# Altium footprint library PCB_library.PcbLib: 36 footprints (part 1 of 3)
Each footprint in its own frame and in the unit in brackets; x right, y up, seen from the top. Pads: shape width x height; smd on the part's side, far side on the other; paste and mask are expansions set on the pad; w line width, h text height; cw(c..) or ccw(c..) is an arc to the next point about the centre after c.
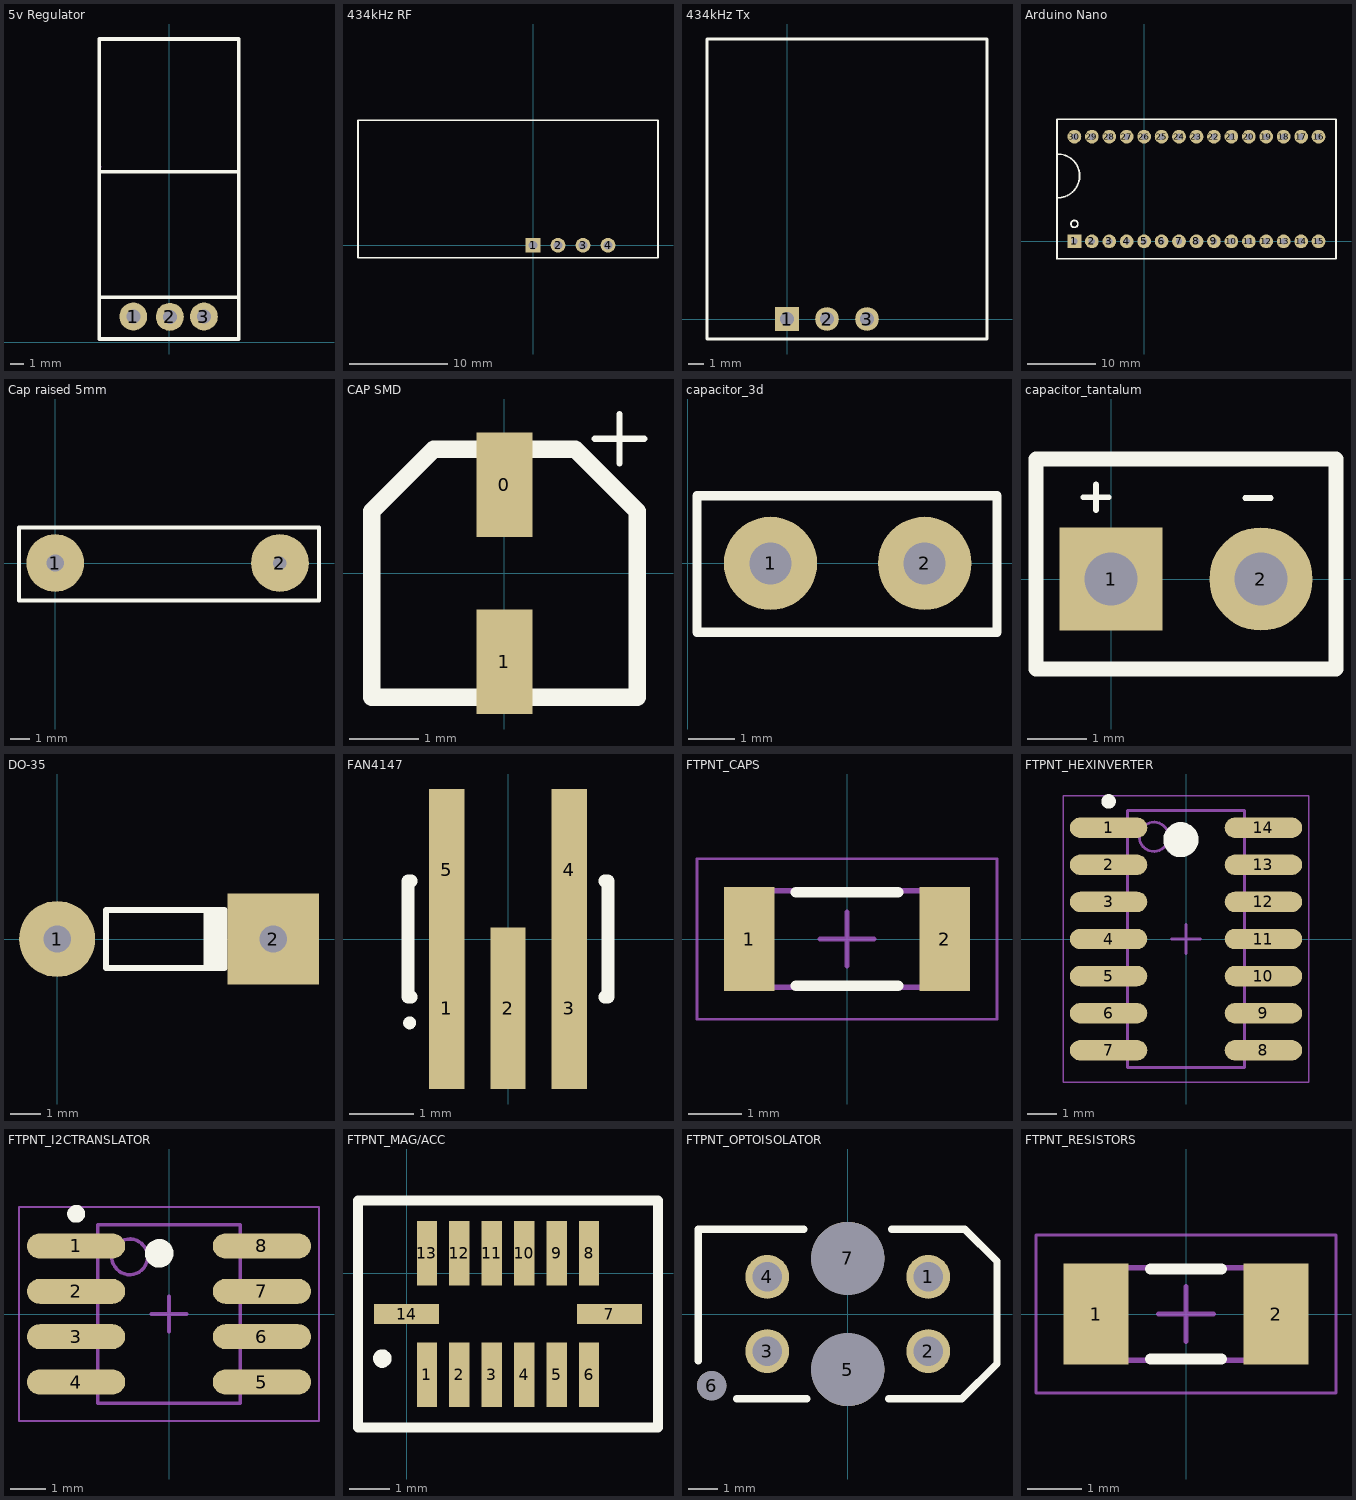
[diagram p0: the footprints below, top view; thin cyan lines are the x and y axes]

## 5v Regulator [mm]
pads (3):
  round 2 hole 1 square: 1(-2.56,1.84) 2(0.06,1.82)
  round 2 hole 1: 3(2.5,1.84)
Top Overlay:
  lines w0.254: -5,3.21 4.51,3.21 4.96,3.21 ; -4.96,12.22 4.98,12.22 ; -5,0.23 -5,21.742 5,21.742 5,0.23 -5,0.23
Mechanical 1:
  lines w0.254: -4.98,12.58 -4.97,12.57
3D body: height 5, standoff 2, extent -5.065,0.29 5.131,21.819

## 434kHz RF [mm] "3d model"
height 10
pads (4):
  rect 1.5x1.5 hole 0.9: 1(0,0)
  round 1.5 hole 0.9: 2(2.54,0) 3(5.08,0) 4(7.62,0)
Top Overlay:
  lines w0.2: -17.78,-1.27 -17.78,12.7 12.7,12.7 12.7,-1.27 -17.78,-1.27
3D body: height 8.1, standoff 8, extent -17.78,-1.27 12.7,12.7
3D body: height 8, standoff 0, extent -0.545,-0.549 0.55,0.549
3D body: height 8, standoff 0, extent 1.995,-0.549 3.09,0.549
3D body: height 8, standoff 0, extent 4.535,-0.549 5.63,0.549
3D body: height 8, standoff 0, extent 7.075,-0.549 8.17,0.549

## 434kHz Tx [mm] "3d model of transmitter"
height 10
pads (3):
  rect 1.5x1.5 hole 0.9: 1(0,0)
  round 1.5 hole 0.9: 2(2.54,0) 3(5.08,0)
Top Overlay:
  lines w0.2: -5.08,-1.27 12.7,-1.27 12.7,17.78 -5.08,17.78 -5.08,-1.27
3D body: height 4.19, standoff 0, extent -0.545,-0.549 0.55,0.549
3D body: height 4.19, standoff 0, extent 1.995,-0.549 3.09,0.549
3D body: height 4.19, standoff 0, extent 4.535,-0.549 5.63,0.549
3D body: height 4.4, standoff 4.2, extent -5.08,-1.27 12.7,17.78

## Arduino Nano [mm] "30 pin breakout"
height 8
pads (30):
  rect 2x2 hole 0.9: 1(-10.16,0)
  round 2 hole 0.9: 2(-7.62,0) 3(-5.08,0) 4(-2.54,0) 5(0,0) 6(2.54,0) 7(5.08,0) 8(7.62,0) 9(10.16,0) 10(12.7,0) 11(15.24,0) 12(17.78,0) 13(20.32,0) 14(22.86,0) 15(25.4,0) 16(25.4,15.24) 17(22.86,15.24) 18(20.32,15.24) 19(17.78,15.24) 20(15.24,15.24) 21(12.7,15.24) 22(10.16,15.24) 23(7.62,15.24) 24(5.08,15.24) 25(2.54,15.24) 26(0,15.24) 27(-2.54,15.24) 28(-5.08,15.24) 29(-7.62,15.24) 30(-10.16,15.24)
Top Overlay:
  circle w0.254: c-10.16,2.54 r0.508
  lines w0.2: -12.77,-2.54 27.94,-2.54
  lines w0.254: -12.7,-2.54 -12.7,17.78 27.94,17.78 27.94,-2.54 ; -12.7,6.35 ccw(c-12.573,9.525) -12.7,12.7
3D body: height 4, standoff 0, extent -11.056,14.339 -9.263,16.141
3D body: height 4, standoff 0, extent -8.516,14.339 -6.723,16.141
3D body: height 4, standoff 0, extent -5.976,14.339 -4.183,16.141
3D body: height 4, standoff 0, extent -3.436,14.339 -1.643,16.141
3D body: height 4, standoff 0, extent -0.896,14.339 0.897,16.141
3D body: height 4, standoff 0, extent 1.644,14.339 3.437,16.141
3D body: height 4, standoff 0, extent 4.184,14.339 5.977,16.141
3D body: height 4, standoff 0, extent 6.724,14.339 8.517,16.141
3D body: height 4, standoff 0, extent 9.264,14.339 11.057,16.141
3D body: height 4, standoff 0, extent 11.804,14.339 13.597,16.141
3D body: height 4, standoff 0, extent 14.344,14.339 16.137,16.141
3D body: height 4, standoff 0, extent 16.884,14.339 18.677,16.141
3D body: height 4, standoff 0, extent 19.424,14.339 21.217,16.141
3D body: height 4, standoff 0, extent 21.964,14.339 23.757,16.141
3D body: height 4, standoff 0, extent 24.504,14.339 26.297,16.141
3D body: height 4, standoff 0, extent 24.504,-0.901 26.297,0.901
3D body: height 4, standoff 0, extent 21.964,-0.901 23.757,0.901
3D body: height 4, standoff 0, extent 19.424,-0.901 21.217,0.901
3D body: height 4, standoff 0, extent 16.884,-0.901 18.677,0.901
3D body: height 4, standoff 0, extent 14.344,-0.901 16.137,0.901
3D body: height 4, standoff 0, extent 11.804,-0.901 13.597,0.901
3D body: height 4, standoff 0, extent 9.264,-0.901 11.057,0.901
3D body: height 4, standoff 0, extent 6.724,-0.901 8.517,0.901
3D body: height 4, standoff 0, extent 4.184,-0.901 5.977,0.901
3D body: height 4, standoff 0, extent 1.644,-0.901 3.437,0.901
3D body: height 4, standoff 0, extent -0.896,-0.901 0.897,0.901
3D body: height 4, standoff 0, extent -3.436,-0.901 -1.643,0.901
3D body: height 4, standoff 0, extent -5.976,-0.901 -4.183,0.901
3D body: height 4, standoff 0, extent -8.516,-0.901 -6.723,0.901
3D body: height 4, standoff 0, extent -11.056,-0.901 -9.263,0.901
3D body: height 4.2, standoff 4, extent -12.7,-2.54 27.94,17.78
3D body: height 4.6, standoff 4.4, extent 22.098,3.302 30.988,11.938

## Cap raised 5mm [mm]
height 6
pads (2):
  round 3 hole 0.9: 1(0,0)
  round 3 hole 0.7: 2(11.684,0)
Top Overlay:
  lines w0.2: -1.881,-1.954 13.716,-1.954 13.716,1.856 -1.881,1.856 -1.881,-1.954
3D body: height 5, standoff 2.5, extent 4.064,-0.889 7.874,0.889
3D body: height 3.78, standoff 0.06, extent -0.546,-0.548 0.549,0.55
3D body: height 4.2, standoff 3.1, extent -0.545,-0.546 0.549,0.549
3D body: height 3.78, standoff 0.06, extent 11.139,-0.549 12.234,0.549
3D body: height 4.2, standoff 3.1, extent 11.14,-0.547 12.234,0.548
3D body: height 4.27, standoff 3.17, extent 0.064,-0.549 4.064,0.549
3D body: height 4.27, standoff 3.17, extent 7.684,-0.508 11.684,0.59

## CAP SMD [mm] "SMD cap"
height 5.4
pads (2):
  rect 0.8x1.5 all layers, no hole: 0(0,1.27) 1(0,-1.27)
Top Overlay:
  lines w0.09: 1.295,1.93 2.007,1.93 ; 1.651,1.575 1.651,2.286
  lines w0.25: -1.905,-1.778 1.905,-1.778 1.905,0.889 1.016,1.778 -1.016,1.778 -1.905,0.889 -1.905,-0.279 -1.905,-1.778
3D body: height 5.4, standoff 0, extent -1.488,-1.497 1.5,1.497

## capacitor_3d [mm] "3d model for through hole capacitor"
height 1
pads (2):
  round 2 hole 0.9: 1(1.778,0) 2(5.08,0)
Top Overlay:
  lines w0.2: 0.203,-1.473 0.203,1.448 6.629,1.448 6.629,-1.473 0.203,-1.473
3D body: height 4.25, standoff 3.15, extent 4.536,-0.548 5.63,0.548
3D body: height 3.78, standoff 0.06, extent 4.535,-0.549 5.63,0.549
3D body: height 4.27, standoff 3.17, extent 1.259,-0.548 2.354,0.548
3D body: height 3.78, standoff 0.06, extent 1.219,-0.574 2.315,0.523
3D body: height 5, standoff 2.5, extent 1.321,-2.108 5.537,2.108

## capacitor_tantalum [mm] "3d model"
pads (2):
  rect 1.75x1.75 hole 0.9: 1(0,0)
  round 1.75 hole 0.9: 2(2.54,0)
Top Overlay:
  lines w0.1: -0.47,1.384 -0.038,1.384 ; -0.254,1.168 -0.254,1.6 ; 2.273,1.372 2.705,1.372
  lines w0.25: -1.27,-1.524 -1.27,2.032 3.81,2.032 3.81,-1.524 -1.27,-1.524
3D body: height 4.7, standoff 2.7, extent -0.989,-0.996 1,0.996
3D body: height 3.7, standoff 1.6, extent -0.992,-0.998 1,0.998
3D body: height 5.25, standoff 2.15, extent 0.473,-1.416 3.557,1.671
3D body: height 1.5, standoff 0, extent 1.995,-0.549 3.09,0.549
3D body: height 1.5, standoff 0, extent -0.545,-0.549 0.55,0.549
3D body: height 2.5, standoff 0.5, extent 1.551,-0.996 3.54,0.996
3D body: height 2.5, standoff 0.5, extent -0.989,-0.996 1,0.996
3D body: height 3.7, standoff 1.6, extent 0.469,-1.42 3.557,1.674

## DO-35 [mm] "Diode, Axial; Body 3.8 x 1.9 mm (LxDia. max), Lead Dia. 0.53 mm (max)"
height 1.9
pads (2):
  round 2.5 hole 0.9: 1(0,0)
  rect 3x3 hole 0.9: 2(7.1,0)
Top Overlay:
  rectangle: 4.8,-0.95 5.6,0.95
  lines w0.2: 5.5,-0.95 1.6,-0.95 1.6,0.95 5.5,0.95
3D body: height 2.34, standoff 0.25, extent 4.318,-1.048 5.318,1.048
3D body: height 1.1, standoff 0, extent 6.554,-0.549 7.65,0.549
3D body: height 1.65, standoff 0.55, extent 6.556,-0.547 7.65,0.548
3D body: height 1.65, standoff 0.55, extent -0.544,-0.547 0.55,0.548
3D body: height 1.65, standoff 0.55, extent 0,-0.549 7.112,0.549
3D body: height 1.1, standoff 0, extent -0.545,-0.549 0.55,0.549
3D body: height 2.3, standoff 0.3, extent 0.991,-0.992 6.071,1

## FAN4147 [mm] "3d model of 5pin IC"
height 2
pads (5):
  rect 0.55x2.5 smd: 1(-0.95,-1.075) 2(0,-1.075) 3(0.95,-1.075) 4(0.95,1.075) 5(-0.95,1.075)
Top Overlay:
  circle w0.1: c-1.525,-1.3 r0.05
  lines w0.2: -1.5,-0.9 -1.55,-0.9 -1.55,0.9 -1.5,0.9 ; 1.5,-0.9 1.55,-0.9 1.55,0.9 1.5,0.9
3D body: height 1.45, standoff 0.15, extent -1.5,-0.85 1.5,0.85

## FTPNT_CAPS [mm] "Chip Capacitor, 2-Leads, Body 3.20x1.60mm, IPC Low Density"
height 1.8
pads (2):
  rect 0.95x1.95 smd: 1(-1.825,0) 2(1.825,0)
Top Overlay:
  lines w0.2: -0.95,-0.875 0.95,-0.875 ; -0.95,0.875 0.95,0.875
Mechanical 13:
  lines w0.1: -1.7,-0.9 -1.7,0.9 1.7,0.9 1.7,-0.9 -1.7,-0.9
Mechanical 15:
  lines w0.05: -2.8,-1.5 -2.8,1.5 2.8,1.5 2.8,-1.5 -2.8,-1.5
  lines w0.1: -0.5,0 0.5,0 ; 0,-0.5 0,0.5
3D body: height 1.8, standoff 0, extent -1.5,-0.9 1.5,0.9
3D body: height 1.8, standoff 0, extent -1.7,-0.9 -1.5,0.9
3D body: height 1.8, standoff 0, extent 1.5,-0.9 1.7,0.9

## FTPNT_HEXINVERTER [mm] "SOP, 14-Leads, Body 8.63x3.90mm, Pitch 1.27mm, IPC Low Density"
height 1.75
pads (14):
  oval 2.65x0.7 smd: 1(-2.65,3.81) 2(-2.65,2.54) 3(-2.65,1.27) 4(-2.65,0) 5(-2.65,-1.27) 6(-2.65,-2.54) 7(-2.65,-3.81) 8(2.65,-3.81) 9(2.65,-2.54) 10(2.65,-1.27) 11(2.65,0) 12(2.65,1.27) 13(2.65,2.54) 14(2.65,3.81)
Top Overlay:
  circle w0.6: c-0.175,3.4 r0.3
  circle w0.25: c-2.65,4.71 r0.125
Mechanical 13:
  circle w0.1: c-1.1,3.5 r0.5
  lines w0.1: -2,-4.4 2,-4.4 2,4.4 -2,4.4 -2,-4.4
Mechanical 15:
  lines w0.05: -4.2,-4.9 4.2,-4.9 4.2,4.9 -4.2,4.9 -4.2,-4.9
  lines w0.1: -0.5,0 0.5,0 ; 0,-0.5 0,0.5
3D body: height 1.75, standoff 0.19, extent -2,-4.4 2,4.4

## FTPNT_I2CTRANSLATOR [mm] "TSOP, 8-Leads, Body 4.90x3.90mm, Pitch 1.27mm, IPC Low Density"
height 0.25
pads (8):
  oval 2.75x0.7 smd: 1(-2.6,1.905) 2(-2.6,0.635) 3(-2.6,-0.635) 4(-2.6,-1.905) 5(2.6,-1.905) 6(2.6,-0.635) 7(2.6,0.635) 8(2.6,1.905)
Top Overlay:
  circle w0.25: c-2.6,2.805 r0.125
  circle w0.4: c-0.275,1.7 r0.2
Mechanical 13:
  circle w0.1: c-1.1,1.6 r0.5
  lines w0.1: -2,-2.5 -2,2.5 2,2.5 2,-2.5 -2,-2.5
Mechanical 15:
  lines w0.05: -4.2,-3 -4.2,3 4.2,3 4.2,-3 -4.2,-3
  lines w0.1: -0.5,0 0.5,0 ; 0,-0.5 0,0.5
3D body: height 0.25, standoff 0.19, extent -2,-2.5 2,2.5

## FTPNT_MAG/ACC [mm]
pads (14):
  rect 0.5x1.6 smd: 1(0.5,-2.5) 2(1.3,-2.5) 3(2.1,-2.5) 4(2.9,-2.5) 5(3.7,-2.5) 6(4.5,-2.5) 8(4.5,0.5) 9(3.7,0.5) 10(2.9,0.5) 11(2.1,0.5) 12(1.3,0.5) 13(0.5,0.5)
  rect 1.6x0.5 smd: 7(5,-1) 14(0,-1)
Top Overlay:
  lines w0.254: -0.505,-2.132 cw(c-0.6,-2.1) -0.5,-2.1 ; -1.2,-3.8 6.2,-3.8 6.2,1.8 -1.2,1.8 -1.2,-3.8

## FTPNT_OPTOISOLATOR [mm]
pads (7):
  round 1.5 hole 1: 1(2.75,1.27) 2(2.75,-1.27) 3(-2.75,-1.27) 4(-2.75,1.27)
  round 2.5 hole 2.5 unplated: 5(0,-1.9) 7(0,1.9)
  round 1 hole 1 unplated: 6(-4.65,-2.45)
Top Overlay:
  lines w0.254: -5.1,-1.6 -5.1,2.9 -1.5,2.9 ; -3.8,-2.9 -1.4,-2.9 ; 1.4,-2.9 3.9,-2.9 5.1,-1.7 5.1,-1.2 5.1,0 5.1,1.2 ; 1.5,2.9 4,2.9 5.1,1.8 5.1,1.6 5.1,1.1

## FTPNT_RESISTORS [mm] "Chip Resistor, 2-Leads, Body 3.10x1.60mm, IPC Low Density"
height 0.7
pads (2):
  rect 1.2x1.85 smd: 1(-1.65,0) 2(1.65,0)
Top Overlay:
  lines w0.2: -0.65,-0.825 0.65,-0.825 ; -0.65,0.825 0.65,0.825
Mechanical 13:
  lines w0.1: -1.6,-0.85 -1.6,0.85 1.6,0.85 1.6,-0.85 -1.6,-0.85
Mechanical 15:
  lines w0.05: -2.75,-1.45 -2.75,1.45 2.75,1.45 2.75,-1.45 -2.75,-1.45
  lines w0.1: -0.5,0 0.5,0 ; 0,-0.5 0,0.5
3D body: height 0.7, standoff 0, extent -1.25,-0.85 1.25,0.85
3D body: height 0.7, standoff 0, extent -1.6,-0.85 -1.25,0.85
3D body: height 0.7, standoff 0, extent 1.25,-0.85 1.6,0.85